# EAGLE library part TPSM365R1X (library Public)
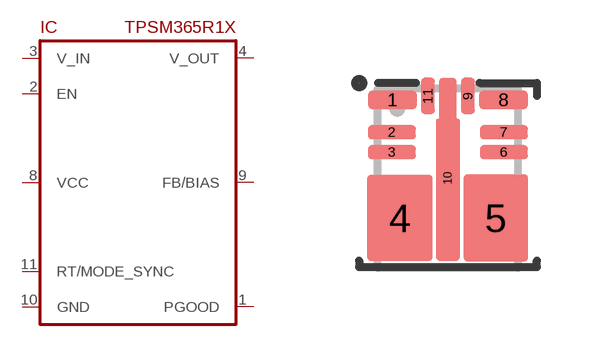
[diagram p197: symbol with the pads of QFN_FCMOD; footprint QFN_FCMOD]

Designator prefix IC

## TPSM365R1X  [QFN_FCMOD]
1  PGOOD
2  EN
3  V_IN
4  V_OUT
8  VCC
9  FB/BIAS
10  GND
11  RT/MODE_SYNC

## Footprint QFN_FCMOD (pad centres in mm)
smd 1.225 x 0.47: 1 -1.387,1.96; 8 1.387,1.96
smd 1.2 x 0.35: 2 -1.4,1.15; 3 -1.4,0.65; 6 1.4,0.65; 7 1.4,1.15
smd 1 x 1: 4 -1.2,-0.995; 5 1.2,-0.995
smd 0.35 x 0.9: 9 0.5,2.06; 11 -0.5,2.06
smd 0.3 x 2: 10 0,0